# Altium footprint library ZTT-16.00MX.PcbLib: 2 footprints
Each footprint in its own frame and in the unit in brackets; x right, y up, seen from the top. Pads: shape width x height; smd on the part's side, far side on the other; paste and mask are expansions set on the pad; w line width, h text height; cw(c..) or ccw(c..) is an arc to the next point about the centre after c.
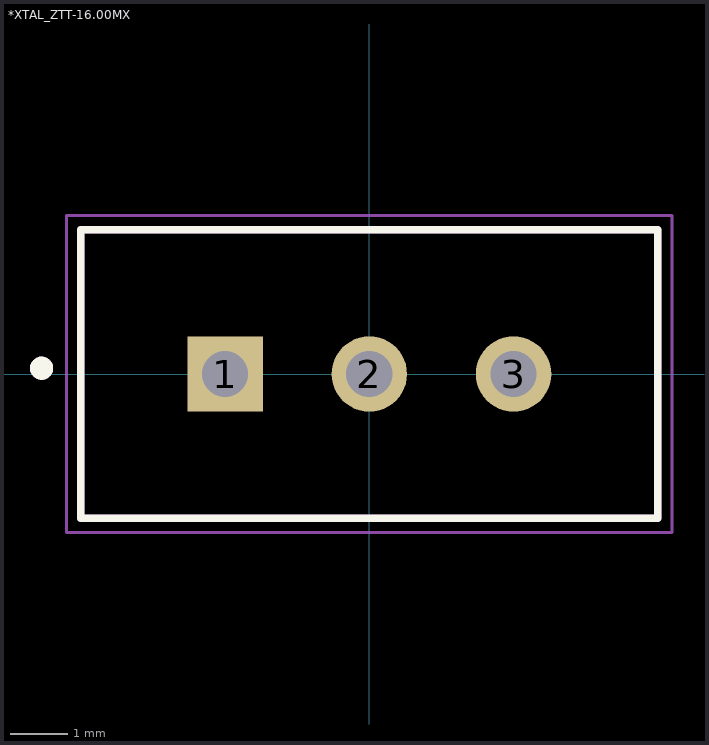
[diagram p0: the footprints below, top view; thin cyan lines are the x and y axes]

## *XTAL_ZTT-16.00MX [mm]
pads (3):
  rect 1.308x1.308 hole 0.8: 1(-2.5,0)
  round 1.308 hole 0.8: 2(0,0) 3(2.5,0)
Top Overlay:
  circle w0.2: c-5.681,0.1 r0.1
  lines w0.127: -5,-2.5 -5,2.5 5,2.5 5,-2.5 -5,-2.5
Mechanical 4:
  circle w0.2: c-5.681,0.1 r0.1
  circle w0.2: c-5.681,0.1 r0.1
  lines w0.127: -5,-2.5 -5,2.5 ; -5,-2.5 5,-2.5 ; -5,-2.5 -5,2.5 ; -5,-2.5 5,-2.5 ; -5,2.5 5,2.5 ; -5,2.5 5,2.5 ; 5,-2.5 5,2.5 ; 5,-2.5 5,2.5
Mechanical 16:
  lines w0.05: -5.25,-2.75 -5.25,2.75 5.25,2.75 5.25,-2.75 -5.25,-2.75

## PCBComponent_1 [mm]